# Altium integrated library TM1637.IntLib: 1 symbol
Pins are listed as number, name and electrical type; pins without a type are passive.

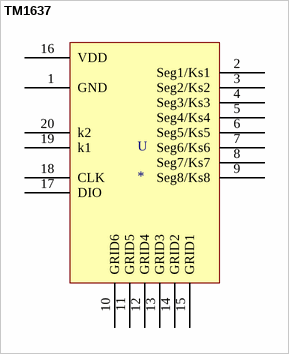
[diagram p0: symbol TM1637]

## TM1637
designator U
7Seg driver; MF: Texas Instruments; MP: TM1637; Mouser-Purchase-URL: https://snapeda.com/shop?store=Mouser&id=358220; Value: *; Availability: Unavailable; Price: None; Package: SOP-20 Texas Instruments; Texas_Instruments-Purchase-URL: https://snapeda.com/shop?store=Texas+Instruments&id=358220; SnapEDA_Link: https://www.snapeda.com/parts/SN74HC377NSR/Texas%20Instruments/view-part/358220/?ref=snap
footprint TM1637
pins: 1 GND, 2 Seg1/Ks1, 3 Seg2/Ks2, 4 Seg3/Ks3, 5 Seg4/Ks4, 6 Seg5/Ks5, 7 Seg6/Ks6, 8 Seg7/Ks7, 9 Seg8/Ks8, 10 GRID6, 11 GRID5, 12 GRID4, 13 GRID3, 14 GRID2, 15 GRID1, 16 VDD, 17 DIO, 18 CLK, 19 k1, 20 k2